# Altium schematic symbol library Motor.SchLib: 22 symbols
Pins are listed as number, name and electrical type; pins without a type are passive.

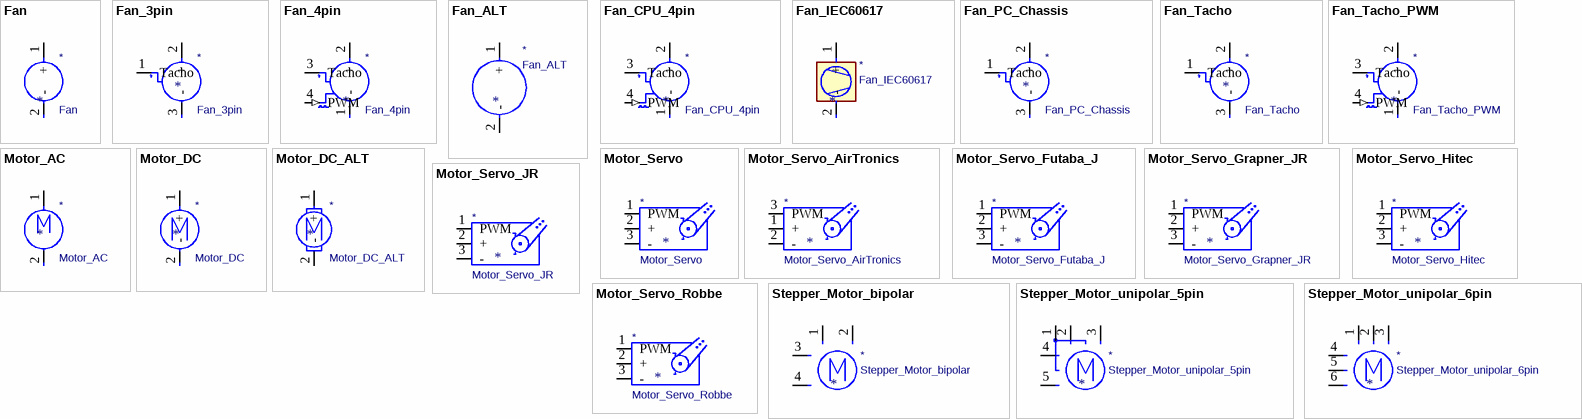
[diagram p0: symbols Fan to Stepper_Motor_unipolar_6pin]

## Fan
designator *  value Fan
ki_keywords: Fan Motor; ki_fp_filters: PinHeader*P2.54mm* TerminalBlock*; Supplier: ~; ki_description: Fan
pins: 1 +, 2 -

## Fan_3pin
designator *  value Fan_3pin
ki_keywords: Fan Motor tacho; ki_description: Fan, tacho output, 3-pin connector; ki_fp_filters: FanPinHeader*P2.54mm*Vertical* PinHeader*P2.54mm*Vertical* TerminalBlock*; Supplier: http://www.hardwarecanucks.com/forum/attachments/new-builds/16287d1330775095-help-chassis-power-fan-connectors-motherboard-asus_p8z68.jpg
pins: 1 Tacho, 2 +, 3 -

## Fan_4pin
designator *  value Fan_4pin
ki_keywords: Fan Motor tacho PWM; ki_description: Fan, tacho output, PWM input, 4-pin connector; ki_fp_filters: FanPinHeader*P2.54mm*Vertical* PinHeader*P2.54mm*Vertical* TerminalBlock*; Supplier: http://www.formfactors.org/developer%5Cspecs%5Crev1_2_public.pdf
pins: 1 -, 2 +, 3 Tacho, 4 PWM (in)

## Fan_ALT
designator *  value Fan_ALT
ki_keywords: Fan Motor; ki_description: Fan without PWM or tach, alternative symbol; ki_fp_filters: PinHeader*P2.54mm* TerminalBlock*; Supplier: ~
pins: 1 +, 2 -

## Fan_CPU_4pin
designator *  value Fan_CPU_4pin
ki_keywords: Fan Motor tacho PWM; ki_description: CPU Fan, tacho output, PWM input, 4-pin connector; ki_fp_filters: FanPinHeader*P2.54mm*Vertical* PinHeader*P2.54mm*Vertical* TerminalBlock*; Supplier: http://www.formfactors.org/developer%5Cspecs%5Crev1_2_public.pdf
pins: 1 -, 2 +, 3 Tacho, 4 PWM (in)

## Fan_IEC60617
designator *  value Fan_IEC60617
ki_keywords: Fan Motor IEC-60617; ki_description: Fan (according to IEC-60617); ki_fp_filters: PinHeader*P2.54mm* TerminalBlock*; Supplier: ~
pins: 1 +, 2 -

## Fan_PC_Chassis
designator *  value Fan_PC_Chassis
ki_keywords: Fan Motor tacho; ki_description: PC chassis fan, tacho output, 3-pin connector; ki_fp_filters: FanPinHeader*P2.54mm*Vertical* PinHeader*P2.54mm*Vertical* TerminalBlock*; Supplier: http://www.hardwarecanucks.com/forum/attachments/new-builds/16287d1330775095-help-chassis-power-fan-connectors-motherboard-asus_p8z68.jpg
pins: 1 Tacho, 2 +, 3 -

## Fan_Tacho
designator *  value Fan_Tacho
ki_keywords: Fan Motor tacho; ki_description: Fan, tacho output, 3-pin connector; ki_fp_filters: FanPinHeader*P2.54mm*Vertical* PinHeader*P2.54mm*Vertical* TerminalBlock*; Supplier: http://www.hardwarecanucks.com/forum/attachments/new-builds/16287d1330775095-help-chassis-power-fan-connectors-motherboard-asus_p8z68.jpg
pins: 1 Tacho, 2 +, 3 -

## Fan_Tacho_PWM
designator *  value Fan_Tacho_PWM
ki_keywords: Fan Motor tacho PWM; ki_description: Fan, tacho output, PWM input, 4-pin connector; ki_fp_filters: FanPinHeader*P2.54mm*Vertical* PinHeader*P2.54mm*Vertical* TerminalBlock*; Supplier: http://www.formfactors.org/developer%5Cspecs%5Crev1_2_public.pdf
pins: 1 -, 2 +, 3 Tacho, 4 PWM (in)

## Motor_AC
designator *  value Motor_AC
ki_keywords: AC Motor; ki_fp_filters: PinHeader*P2.54mm* TerminalBlock*; Supplier: ~; ki_description: AC Motor
pins: 1, 2

## Motor_DC
designator *  value Motor_DC
ki_keywords: DC Motor; ki_fp_filters: PinHeader*P2.54mm* TerminalBlock*; Supplier: ~; ki_description: DC Motor
pins: 1 +, 2 -

## Motor_DC_ALT
designator *  value Motor_DC_ALT
ki_keywords: DC Motor; ki_description: DC Motor, alternative symbol; ki_fp_filters: PinHeader*P2.54mm* TerminalBlock*; Supplier: ~
pins: 1 +, 2 -

## Motor_Servo
designator *  value Motor_Servo
ki_keywords: Servo Motor; ki_description: Servo Motor (Futaba, HiTec, JR connector); ki_fp_filters: PinHeader*P2.54mm*; Supplier: http://forums.parallax.com/uploads/attachments/46831/74481.png
pins: 1 PWM, 2 +, 3 -

## Motor_Servo_AirTronics
designator *  value Motor_Servo_AirTronics
ki_keywords: Servo Motor; ki_description: Servo Motor (AirTronics connector); ki_fp_filters: PinHeader*P2.54mm*; Supplier: http://forums.parallax.com/uploads/attachments/46831/74481.png
pins: 1 +, 2 -, 3 PWM

## Motor_Servo_Futaba_J
designator *  value Motor_Servo_Futaba_J
ki_keywords: Servo Motor; ki_description: Servo Motor (Futuba J-connector); ki_fp_filters: PinHeader*P2.54mm*; Supplier: http://forums.parallax.com/uploads/attachments/46831/74481.png
pins: 1 PWM, 2 +, 3 -

## Motor_Servo_Grapner_JR
designator *  value Motor_Servo_Grapner_JR
ki_keywords: Servo Motor; ki_description: Servo Motor (Graupner JR connector); ki_fp_filters: PinHeader*P2.54mm*; Supplier: http://forums.parallax.com/uploads/attachments/46831/74481.png
pins: 1 PWM, 2 +, 3 -

## Motor_Servo_Hitec
designator *  value Motor_Servo_Hitec
ki_keywords: Servo Motor; ki_description: Servo Motor (HiTec connector); ki_fp_filters: PinHeader*P2.54mm*; Supplier: http://forums.parallax.com/uploads/attachments/46831/74481.png
pins: 1 PWM, 2 +, 3 -

## Motor_Servo_JR
designator *  value Motor_Servo_JR
ki_keywords: Servo Motor; ki_description: Servo Motor (JR connector); ki_fp_filters: PinHeader*P2.54mm*; Supplier: http://forums.parallax.com/uploads/attachments/46831/74481.png
pins: 1 PWM, 2 +, 3 -

## Motor_Servo_Robbe
designator *  value Motor_Servo_Robbe
ki_keywords: Servo Motor; ki_description: Servo Motor (Robbe connector); ki_fp_filters: PinHeader*P2.54mm*; Supplier: http://forums.parallax.com/uploads/attachments/46831/74481.png
pins: 1 PWM, 2 +, 3 -

## Stepper_Motor_bipolar
designator *  value Stepper_Motor_bipolar
ki_keywords: bipolar stepper motor; ki_description: 4-wire bipolar stepper motor; ki_fp_filters: PinHeader*P2.54mm*Vertical* TerminalBlock* Motor*; Supplier: http://www.infineon.com/dgdl/Application-Note-TLE8110EE_driving_UniPolarStepperMotor_V1.1.pdf?fileId=db3a30431be39b97011be5d0aa0a00b0
pins: 1, 2 -, 3, 4

## Stepper_Motor_unipolar_5pin
designator *  value Stepper_Motor_unipolar_5pin
ki_keywords: unipolar stepper motor; ki_description: 5-wire unipolar stepper motor; ki_fp_filters: PinHeader*P2.54mm* TerminalBlock*; Supplier: http://www.infineon.com/dgdl/Application-Note-TLE8110EE_driving_UniPolarStepperMotor_V1.1.pdf?fileId=db3a30431be39b97011be5d0aa0a00b0
pins: 1, 2, 3 -, 4, 5

## Stepper_Motor_unipolar_6pin
designator *  value Stepper_Motor_unipolar_6pin
ki_keywords: unipolar stepper motor; ki_description: 6-wire unipolar stepper motor; ki_fp_filters: PinHeader*P2.54mm* TerminalBlock*; Supplier: http://www.infineon.com/dgdl/Application-Note-TLE8110EE_driving_UniPolarStepperMotor_V1.1.pdf?fileId=db3a30431be39b97011be5d0aa0a00b0
pins: 1, 2, 3 -, 4, 5, 6